# Altium footprint library TO-247.PcbLib: 1 footprints
Each footprint in its own frame and in the unit in brackets; x right, y up, seen from the top. Pads: shape width x height; smd on the part's side, far side on the other; paste and mask are expansions set on the pad; w line width, h text height; cw(c..) or ccw(c..) is an arc to the next point about the centre after c.
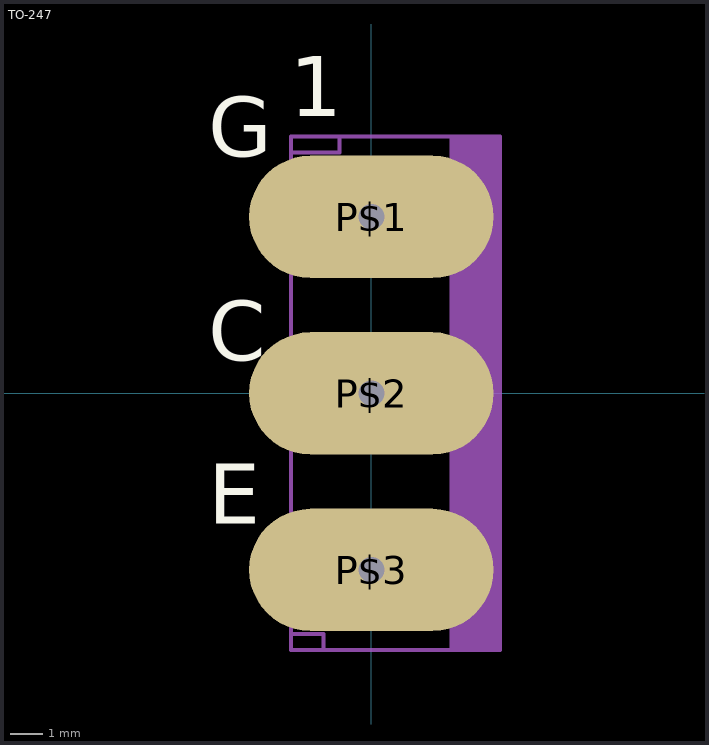
[diagram p0: the footprint, top view; thin cyan lines are the x and y axes]

## TO-247 [mm]
pads (3):
  oval 7.62x3.81 hole 0.8: P$1(0,5.5) P$2(0,0) P$3(0,-5.5)
Top Overlay:
  text "1" at -2.54,8.641 h1.88
  text "E" at -5.087,-4.066 h1.88
  text "C" at -5.082,1.021 h1.88
  text "G" at -5.081,7.371 h1.88
Mechanical 1:
  region: 2.502,8 4,8 4,-8.008 2.502,-8.008
  region: 2.502,8 3,8 3,-8.005 2.502,-8.005
  lines w0.127: -0.5,-5.5 -0.5,-5 ; -0.5,5.5 -0.5,5 ; 0,-1.5 -2.5,-1.5 ; -2.5,-7.5 -1.5,-7.5 -1.5,-8 ; -2.5,-7.5 -2.5,-1.5 ; -2.5,-7.5 -2.5,-8 -1.5,-8 ; -2.5,-1.5 2.5,-1.5 ; -2.5,-1.5 -2.5,1.5 ; -2.5,1.5 2.5,1.5 ; -2.5,1.5 -2.5,7.5 ; -2.5,7.5 -1,7.5 -1,8 ; -2.5,7.5 -2.5,8 -1,8 ; -1.5,-8 2.5,-8 ; -1,8 2.5,8 ; -0.5,-5 -0.5,-6 0.5,-6 0.5,-5 -0.5,-5 ; -0.5,5 0.5,5 0.5,6 -0.5,6 -0.5,5 ; 2.5,-8 3,-8 ; 2.5,-8 2.5,-1.5 ; 2.5,-1.5 2.5,1.5 ; 2.5,1.5 2.5,8 ; 2.5,8 3,8 ; 3,-8 4,-8 4,8 3,8 ; 3,-8 3,8 ; -0.5,-0.5 -0.5,0.5 0.5,0.5 0.5,-0.5 -0.5,-0.5